# EAGLE library part UCC27282 (library mosfet_drivers)
3-A, 120-V half bridge gate driver with 5-V UVLO and interlock protections
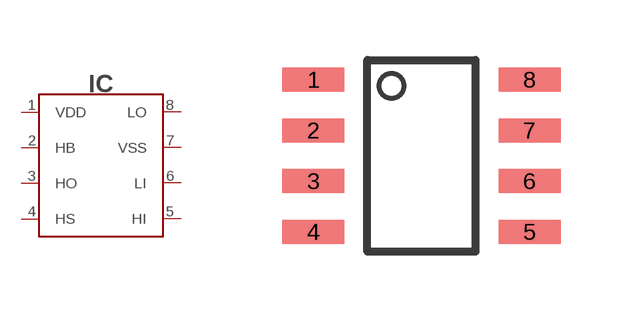
[diagram p2: symbol with the pads of SOIC8; footprint SOIC8]

Designator prefix IC

## UCC27282-SOIC8 (DIGIKEY#: 296-UCC27282DRCT-ND; MANF: Texas Instruments; MANF#: UCC27282DR)  [SOIC8]
1  VDD
2  HB
3  HO
4  HS
5  HI
6  LI
7  VSS
8  LO

## Footprint SOIC8 (pad centres in mm)
https://www.ti.com/lit/ds/snvsaq5a/snvsaq5a.pdf?ts=1602424164509
smd 1.55 x 0.6: 1 -2.7,1.905; 2 -2.7,0.635; 3 -2.7,-0.635; 4 -2.7,-1.905; 5 2.7,-1.905; 6 2.7,-0.635; 7 2.7,0.635; 8 2.7,1.905